# EAGLE library part 3020-40-0300-00 (library CONNECTORs)
Connector Header Surface Mount 40 position 0.100" (2.54mm)
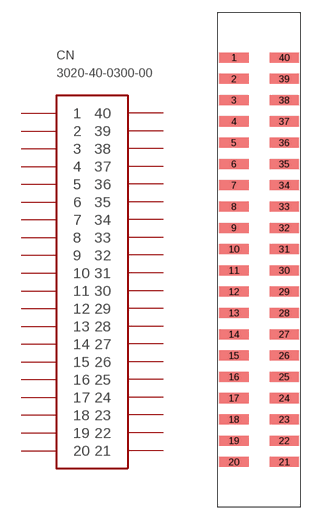
[diagram p81: symbol with the pads of 3020-40-0300-00; footprint 3020-40-0300-00]

Designator prefix CN

## 3020-40-0300-00 (DIGIKEY: 1175-1626-ND; HEIGHT: 9; PRICE_PER: 1.34; VALUE: 40 PIN)  [3020-40-0300-00]
1  1
2  2
3  3
4  4
5  5
6  6
7  7
8  8
9  9
10  10
11  11
12  12
13  13
14  14
15  15
16  16
17  17
18  18
19  19
20  20
21  21
22  22
23  23
24  24
25  25
26  26
27  27
28  28
29  29
30  30
31  31
32  32
33  33
34  34
35  35
36  36
37  37
38  38
39  39
40  40

## Footprint 3020-40-0300-00 (pad centres in mm)
smd 3.5 x 1.2: 1 -3,24.13; 2 -3,21.59; 3 -3,19.05; 4 -3,16.51; 5 -3,13.97; 6 -3,11.43; 7 -3,8.89; 8 -3,6.35; 9 -3,3.81; 10 -3,1.27; 11 -3,-1.27; 12 -3,-3.81; 13 -3,-6.35; 14 -3,-8.89; 15 -3,-11.43; 16 -3,-13.97; 17 -3,-16.51; 18 -3,-19.05; 19 -3,-21.59; 20 -3,-24.13; 21 3,-24.13; 22 3,-21.59; 23 3,-19.05; 24 3,-16.51; 25 3,-13.97; 26 3,-11.43; 27 3,-8.89; 28 3,-6.35; 29 3,-3.81; 30 3,-1.27; 31 3,1.27; 32 3,3.81; 33 3,6.35; 34 3,8.89; 35 3,11.43; 36 3,13.97; 37 3,16.51; 38 3,19.05; 39 3,21.59; 40 3,24.13